# Altium integrated library lib_connectors.IntLib: 18 symbols
Pins are listed as number, name and electrical type; pins without a type are passive.

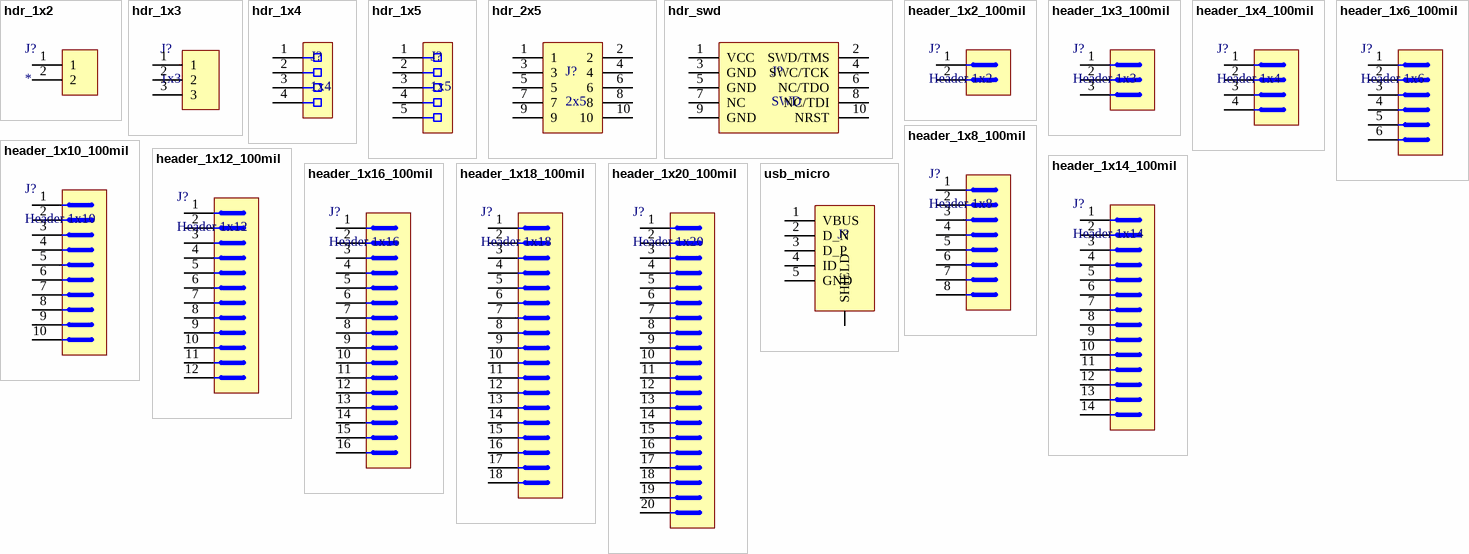
[diagram p0: symbols hdr_1x2 to usb_micro]

## hdr_1x2
designator J?
1x2 Header
footprint hdr_1x2_200mil
pins: 1, 2

## hdr_1x3
designator J?, comment 1x3
1x3 Header
footprint hdr_1x3_100mil
pins: 1, 2, 3

## hdr_1x4
designator J?, comment 1x4
1x4 Header
footprint hdr_1x4_50mil_th
pins: 1, 2, 3, 4

## hdr_1x5
designator J?, comment 1x5
1x5 Header
footprint hdr_1x5_50mil_th
pins: 1, 2, 3, 4, 5

## hdr_2x5
designator J?, comment 2x5
2x5 Header
footprint hdr_2x5_50mil (2x5 Pin header, 50mil pitch)
pins: 1, 2, 3, 4, 5, 6, 7, 8, 9, 10

## hdr_swd
designator J?, comment SWD
SWD Header
footprint hdr_2x5_50mil (2x5 Pin header, 50mil pitch)
pins: 1 VCC, 2 SWD/TMS, 3 GND, 4 SWC/TCK, 5 GND, 6 NC/TDO, 7 NC, 8 NC/TDI, 9 GND, 10 NRST

## header_1x2_100mil
designator J?, comment Header 1x2
2.54mm pitch single row header
footprint HEADER_1x2_100MIL
pins: 1, 2

## header_1x3_100mil
designator J?, comment Header 1x3
2.54mm pitch single row header
footprint HEADER_1x3_100MIL
pins: 1, 2, 3

## header_1x4_100mil
designator J?, comment Header 1x4
2.54mm pitch single row header
footprint HEADER_1x4_100MIL
pins: 1, 2, 3, 4

## header_1x6_100mil
designator J?, comment Header 1x6
2.54mm pitch single row header
footprint HEADER_1x6_100MIL
pins: 1, 2, 3, 4, 5, 6

## header_1x8_100mil
designator J?, comment Header 1x8
2.54mm pitch single row header
footprint HEADER_1x8_100MIL
pins: 1, 2, 3, 4, 5, 6, 7, 8

## header_1x10_100mil
designator J?, comment Header 1x10
2.54mm pitch single row header
footprint HEADER_1x10_100MIL
pins: 1, 2, 3, 4, 5, 6, 7, 8, 9, 10

## header_1x12_100mil
designator J?, comment Header 1x12
2.54mm pitch single row header
footprint HEADER_1x12_100MIL
pins: 1, 2, 3, 4, 5, 6, 7, 8, 9, 10, 11, 12

## header_1x14_100mil
designator J?, comment Header 1x14
2.54mm pitch single row header
footprint HEADER_1x14_100MIL
pins: 1, 2, 3, 4, 5, 6, 7, 8, 9, 10, 11, 12, 13, 14

## header_1x16_100mil
designator J?, comment Header 1x16
2.54mm pitch single row header
footprint HEADER_1x16_100MIL
pins: 1, 2, 3, 4, 5, 6, 7, 8, 9, 10, 11, 12, 13, 14, 15, 16

## header_1x18_100mil
designator J?, comment Header 1x18
2.54mm pitch single row header
footprint HEADER_1x18_100MIL
pins: 1, 2, 3, 4, 5, 6, 7, 8, 9, 10, 11, 12, 13, 14, 15, 16, 17, 18

## header_1x20_100mil
designator J?, comment Header 1x20
2.54mm pitch single row header
footprint HEADER_1x20_100MIL
pins: 1, 2, 3, 4, 5, 6, 7, 8, 9, 10, 11, 12, 13, 14, 15, 16, 17, 18, 19, 20

## usb_micro
designator J?  (value not drawn)
Micro USB Receptacle
footprint usb_micro_10118192-0001LF (10118192-0001LF)
pins: 1 VBUS, 2 D_N, 3 D_P, 4 ID, 5 GND, SHIELD